# EAGLE library part STM6601 (library ERIC)
Smart push-button on/off controller with Smart ResetTM and power-on lockout
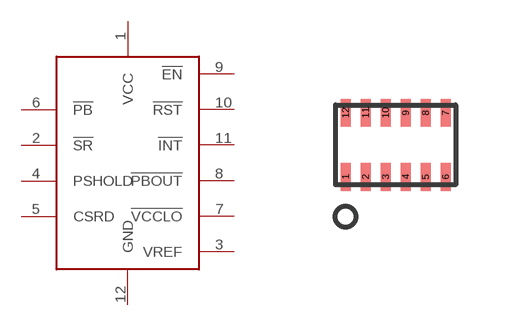
[diagram p26: symbol with the pads of TDFN12(2X3MM)_STM; footprint TDFN12(2X3MM)_STM]

Designator prefix -

## STM6601TDFN  [TDFN12(2X3MM)_STM]
1  VCC  pwr
2  !SR
3  VREF
4  PSHOLD
5  CSRD
6  !PB
7  !VCCLO
8  !PBOUT
9  !EN
10  !RST
11  !INT
12  GND  pwr

## Footprint TDFN12(2X3MM)_STM (pad centres in mm)
From page 44 of STM6600, STM6601 datasheet
smd 0.25 x 0.7: 1 -1.25,-0.8; 2 -0.75,-0.8; 3 -0.25,-0.8; 4 0.25,-0.8; 5 0.75,-0.8; 6 1.25,-0.8; 7 1.25,0.8; 8 0.75,0.8; 9 0.25,0.8; 10 -0.25,0.8; 11 -0.75,0.8; 12 -1.25,0.8